# Altium schematic symbol library LMV7239M7X_NOPB.Schlib: 1 symbol
Pins are listed as number, name and electrical type; pins without a type are passive.

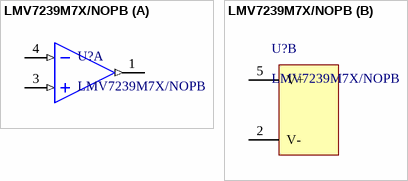
[diagram p0: symbol LMV7239M7X/NOPB]

## LMV7239M7X/NOPB
designator U?
Comparator General Purpose Push-Pull SC-70-5
part A pins: 1 VOUT (out), 3 IN+ (in), 4 IN- (in)
part B pins: 2 V- (power), 5 V+ (power)